# Altium footprint library ESE516_shipwars_PCB.PcbLib: 39 footprints (part 3 of 3)
Each footprint in its own frame and in the unit in brackets; x right, y up, seen from the top. Pads: shape width x height; smd on the part's side, far side on the other; paste and mask are expansions set on the pad; w line width, h text height; cw(c..) or ccw(c..) is an arc to the next point about the centre after c.
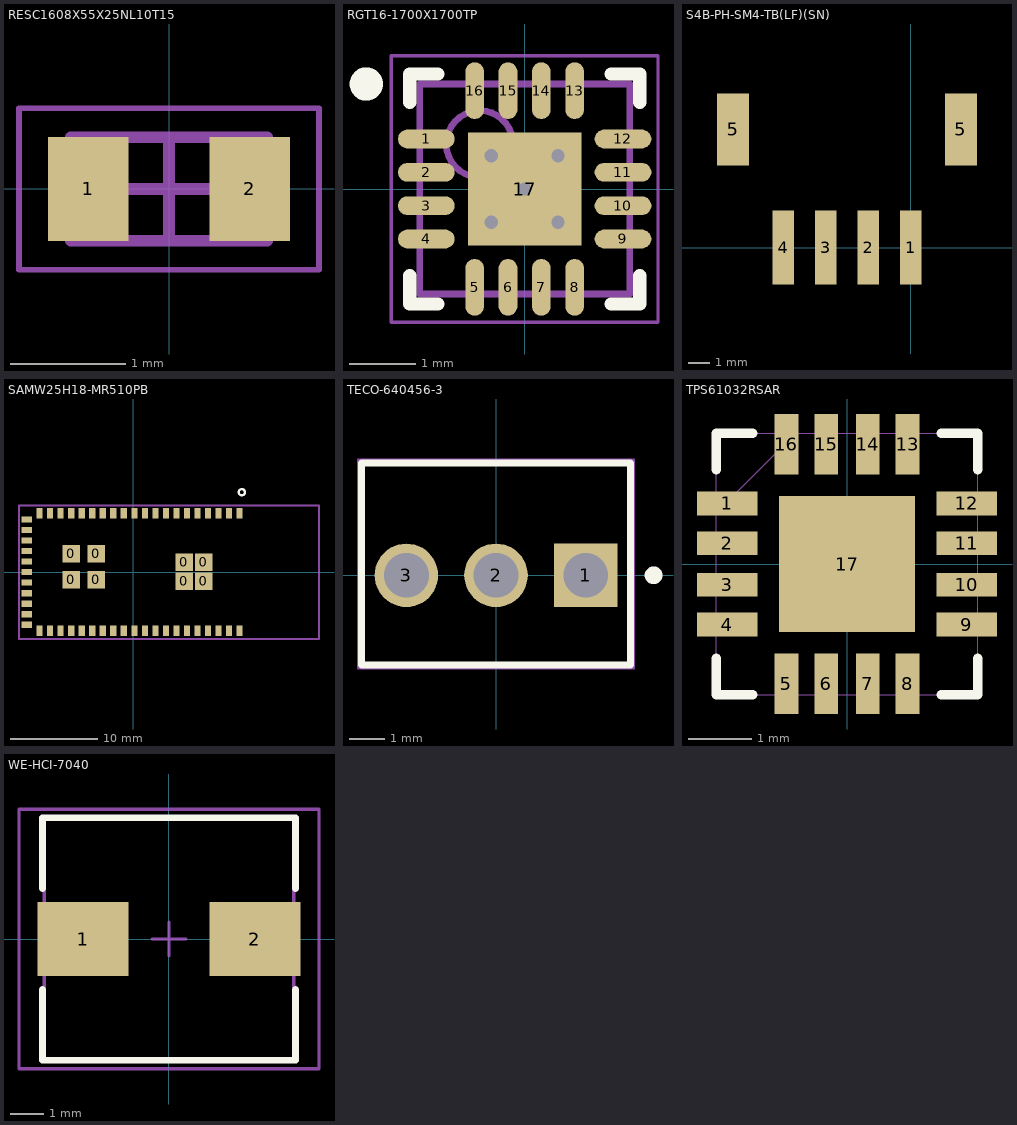
[diagram p2: the footprints below, top view; thin cyan lines are the x and y axes]

## RESC1608X55X25NL10T15 [mm] "Chip Resistor, 2-Leads, Body 1.60x0.80mm, IPC Medium Density"
height 0.55
pads (2):
  rect 0.7x0.9 smd: 1(-0.7,0) 2(0.7,0)
Mechanical 13:
  lines w0.1: -0.85,-0.45 0.85,-0.45 0.85,0.45 -0.85,0.45 -0.85,-0.45
Mechanical 15:
  lines w0.05: -1.3,-0.7 1.3,-0.7 1.3,0.7 -1.3,0.7 -1.3,-0.7
  lines w0.1: -0.45,0 0.45,0 ; 0,-0.45 0,0.45
3D body: height 0.55, standoff 0, extent 0.6,-0.45 0.85,0.45
3D body: height 0.55, standoff 0, extent -0.85,-0.45 -0.6,0.45
3D body: height 0.55, standoff 0, extent -0.6,-0.45 0.6,0.45

## RGT16-1700X1700TP [mm] "QFN, 16-Leads, Body 3x3mm, Pitch 0.5mm, Thermal Pad 1.7x1.7mm, TI Recommended"
height 1
pads (17):
  oval 0.85x0.28 smd paste-0.025 mask+0.07: 1(-1.475,0.75) 2(-1.475,0.25) 3(-1.475,-0.25) 4(-1.475,-0.75) 9(1.475,-0.75) 10(1.475,-0.25) 11(1.475,0.25) 12(1.475,0.75)
  oval 0.28x0.85 smd paste-0.025 mask+0.07: 5(-0.75,-1.475) 6(-0.25,-1.475) 7(0.25,-1.475) 8(0.75,-1.475) 13(0.75,1.475) 14(0.25,1.475) 15(-0.25,1.475) 16(-0.75,1.475)
  rect 1.7x1.7 smd paste-0.85 mask+0.07: 17(0,0)
via -0.5,0.5 diameter 0.5 hole 0.2
via -0.5,-0.5 diameter 0.5 hole 0.2
via 0.5,-0.5 diameter 0.5 hole 0.2
via 0.5,0.5 diameter 0.5 hole 0.2
via 0,0 diameter 0.5 hole 0.2
Top Overlay:
  circle w0.25: c-2.375,1.575 r0.125
  lines w0.2: -1.725,-1.3 -1.725,-1.725 -1.3,-1.725 ; -1.725,1.3 -1.725,1.725 -1.3,1.725 ; 1.3,-1.725 1.725,-1.725 1.725,-1.3 ; 1.3,1.725 1.725,1.725 1.725,1.3
Top Paste:
  region: -0.1,0.1 -0.1,0.8 -0.8,0.8 -0.8,0.1
  region: -0.1,-0.1 -0.8,-0.1 -0.8,-0.8 -0.1,-0.8
  region: 0.1,-0.1 0.1,-0.8 0.8,-0.8 0.8,-0.1
  rectangle: 0.1,0.1 0.8,0.8
Mechanical 13:
  circle w0.1: c-0.675,0.675 r0.5
  lines w0.1: -1.575,-1.575 -1.575,1.575 1.575,1.575 1.575,-1.575 -1.575,-1.575
Mechanical 15:
  lines w0.05: -2,-2 -2,2 2,2 2,-2 -2,-2
  lines w0.1: -0.5,0 0.5,0 ; 0,-0.5 0,0.5
3D body: height 1, standoff 0, extent -1.575,-1.575 1.575,1.575

## S4B-PH-SM4-TB(LF)(SN) [mm]
height 5.5
pads (6):
  rect 1x3.5 smd: 1(0,0) 2(-2,0) 3(-4,0) 4(-6,0)
  rect 1.5x3.4 smd: 5(-8.35,5.55) 5(2.35,5.55)
3D body "S4B-PH-SM4-TB.STEP": height 5.61, standoff 0.01, extent -8.896,-1.539 3.004,7.061

## SAMW25H18-MR510PB [mm] "RF TXRX MODULE WIFI TRACE ANT"
pads (59):
  rect 2x2 smd: 0(-7.065,-0.839) 0(-7.065,2.085) 0(-4.21,-0.839) 0(-4.21,2.085)
  rect 2x2 smd mask+0.127: 0(5.828,-1.045) 0(5.828,1.137) 0(8.046,-1.045) 0(8.046,1.137)
  rect 0.7x1.2 smd: 1(12.121,6.7) 2(10.921,6.7) 3(9.721,6.7) 4(8.521,6.7) 5(7.321,6.7) 6(6.121,6.7) 7(4.921,6.7) 8(3.721,6.7) 9(2.521,6.7) 10(1.321,6.7) 11(0.121,6.7) 12(-1.079,6.7) 13(-2.279,6.7) 14(-3.479,6.7) 15(-4.679,6.7) 16(-5.879,6.7) 17(-7.079,6.7) 18(-8.279,6.7) 19(-9.479,6.7) 20(-10.679,6.7) 32(-10.679,-6.7) 33(-9.479,-6.7) 34(-8.279,-6.7) 35(-7.079,-6.7) 36(-5.879,-6.7) 37(-4.679,-6.7) 38(-3.479,-6.7) 39(-2.279,-6.7) 40(-1.079,-6.7) 41(0.121,-6.7) 42(1.321,-6.7) 43(2.521,-6.7) 44(3.721,-6.7) 45(4.921,-6.7) 46(6.121,-6.7) 47(7.321,-6.7) 48(8.521,-6.7) 49(9.721,-6.7) 50(10.921,-6.7) 51(12.121,-6.7)
  rect 1.2x0.7 smd: 21(-12.12,6.004) 22(-12.12,4.804) 23(-12.12,3.604) 24(-12.12,2.404) 25(-12.12,1.204) 26(-12.12,0.004) 27(-12.12,-1.196) 28(-12.12,-2.396) 29(-12.12,-3.596) 30(-12.12,-4.796) 31(-12.12,-5.996)
Top Overlay:
  circle w0.254: c12.382,9.118 r0.358
Mechanical 3:
  lines w0.254: -13.031,-7.612 21.179,-7.612 21.179,7.597 -13.031,7.597 -13.031,-7.612
3D body "SAMW25.STEP": height 3.37, standoff -0.03, extent -12.885,-7.452 20.978,7.455

## TECO-640456-3 [mm] "Through Hole, 3-Leads, Body 7.62x5.72mm, Pitch 2.54mm"
height 10.03
pads (3):
  rect 1.8x1.8 hole 1.27 paste+0: 1(2.54,0)
  round 1.8 hole 1.27 paste+0: 2(0,0) 3(-2.54,0)
Top Overlay:
  circle w0.25: c4.462,0 r0.127
  lines w0.2: -3.81,-2.54 3.81,-2.54 3.81,3.18 -3.81,3.18 -3.81,-2.54
Mechanical 13:
  lines w0.1: -3.81,-2.54 -3.81,3.18 3.81,3.18 3.81,-2.54 -3.81,-2.54
Mechanical 15:
  lines w0.05: -3.91,-2.64 3.91,-2.64 3.91,3.28 -3.91,3.28 -3.91,-2.64
  lines w0.1: -0.5,0 0.5,0 ; 0,-0.5 0,0.5
3D body: height 10.03, standoff -3.56, extent -0.32,-0.32 0.32,0.32
3D body: height 10.03, standoff -3.56, extent 2.22,-0.32 2.86,0.32
3D body: height 10.03, standoff -3.56, extent -2.86,-0.32 -2.22,0.32
3D body: height 2.54, standoff 0, extent -3.81,-2.54 3.81,3.175
3D body: height 7.87, standoff 2.54, extent -2.54,1.651 2.54,3.175

## TPS61032RSAR [mil]
pads (17):
  rect 38x15 smd: 1(-75,38) 2(-75,13) 3(-75,-13) 4(-75,-38) 9(75,-38) 10(75,-13) 11(75,13) 12(75,38)
  rect 15x38 smd: 5(-38,-75) 6(-13,-75) 7(13,-75) 8(38,-75) 13(38,75) 14(13,75) 15(-13,75) 16(-38,75)
  rect 85x85 smd: 17(0,0)
Top Overlay:
  lines w6: -82,-59 -82,-82 -59,-82 ; -82,59 -82,82 -59,82 ; 59,-82 82,-82 82,-59 ; 59,82 82,82 82,59
Mechanical 13:
  lines w0: -82,-46 -82,-31 ; -82,-20 -82,-5 ; -82,5 -82,20 ; -82,31 -82,46 ; -82,32 -32,82 ; -46,-82 -31,-82 ; -46,82 -31,82 ; -20,-82 -5,-82 ; -20,82 -5,82 ; 5,-82 20,-82 ; 5,82 20,82 ; 31,-82 46,-82 ; 31,82 46,82 ; 82,-46 82,-31 ; 82,-20 82,-5 ; 82,5 82,20 ; 82,31 82,46 ; -82,-82 82,-82 82,82 -82,82 -82,-82
3D body "TPS61032RSAR.STEP": height 39.87, standoff 0.5, extent -78.73,-78.73 78.74,78.74

## WE-HCI-7040 [mm] "SMD Inductor, 2-Leads, Body 7.0 x 6.9 mm"
height 4
pads (2):
  rect 2.7x2.2 smd: 1(-2.55,0) 2(2.55,0)
Top Overlay:
  lines w0.2: -3.75,-1.5 -3.75,-3.6 3.75,-3.6 3.75,-1.5 ; -3.75,1.5 -3.75,3.6 3.75,3.6 3.75,1.5
Mechanical 13:
  lines w0.1: -3.7,-3.6 -3.7,3.6 3.7,3.6 3.7,-3.6 -3.7,-3.6
Mechanical 15:
  lines w0.1: -0.5,0 0.5,0 ; 0,-0.5 0,0.5 ; -4.45,-3.85 -4.45,3.85 4.45,3.85 4.45,-3.85 -4.45,-3.85
3D body "744311220.stp": height 4, standoff 0, extent -3.5,-3.45 3.5,3.45